# EAGLE library part PICAXE14M (library CJ_Libz)
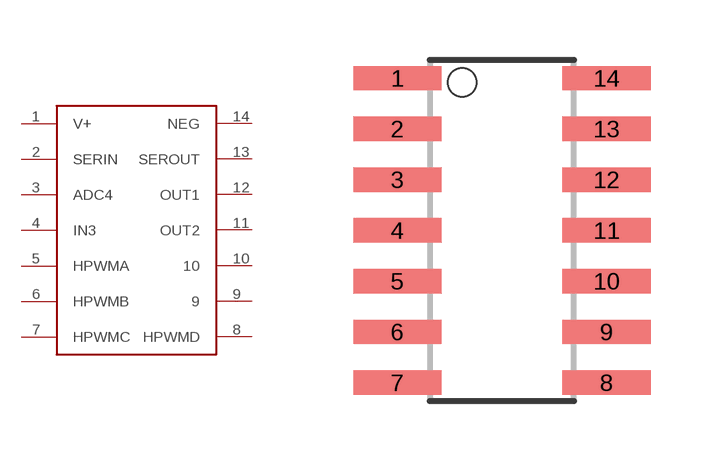
[diagram p0: symbol with the pads of SOIC-14; footprint SOIC-14]

Designator prefix -

## PICAXE14M  [SOIC-14]
1  V+
2  SERIN
3  ADC4
4  IN3
5  HPWMA
6  HPWMB
7  HPWMC
8  HPWMD
9  9
10  10
11  OUT2
12  OUT1
13  SEROUT
14  NEG

## Footprint SOIC-14 (pad centres in mm)
SOIC-14
smd 2.21 x 0.61: 1 -2.616,4.445; 2 -2.616,3.175; 3 -2.616,1.905; 4 -2.616,0.635; 5 -2.616,-0.635; 6 -2.616,-1.905; 7 -2.616,-3.175; 8 2.616,-3.175; 9 2.616,-1.905; 10 2.616,-0.635; 11 2.616,0.635; 12 2.616,1.905; 13 2.616,3.175; 14 2.616,4.445